# EAGLE library part 4050699 (library ampex)
REGULATOR BOARD
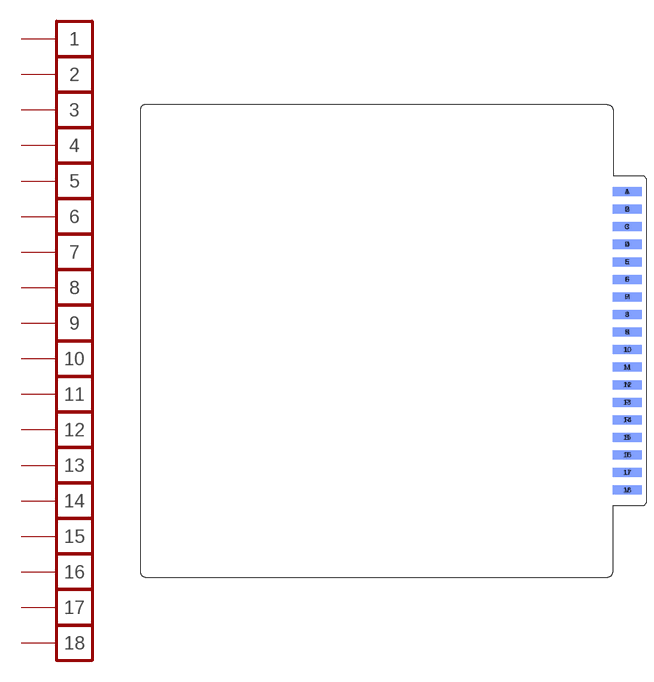
[diagram p22: symbol with the pads of 4050699; footprint 4050699]

Designator prefix PCB; gates 1=FPIN 2=FPIN 3=FPIN 4=FPIN 5=FPIN 6=FPIN 7=FPIN 8=FPIN 9=FPIN 10=FPIN 11=FPIN 12=FPIN 13=FPIN 14=FPIN 15=FPIN 16=FPIN 17=FPIN 18=FPIN

## 4050699  [4050699]
1  1:P  pas
2  2:P  pas
3  3:P  pas
4  4:P  pas
5  5:P  pas
6  6:P  pas
7  7:P  pas
8  8:P  pas
9  9:P  pas
10  10:P  pas
11  11:P  pas
12  12:P  pas
13  13:P  pas
14  14:P  pas
15  15:P  pas
16  16:P  pas
17  17:P  pas
18  18:P  pas
A  1:P  pas
B  2:P  pas
C  3:P  pas
D  4:P  pas
E  5:P  pas
F  6:P  pas
H  7:P  pas
J  8:P  pas
K  9:P  pas
L  10:P  pas
M  11:P  pas
N  12:P  pas
P  13:P  pas
R  14:P  pas
S  15:P  pas
T  16:P  pas
U  17:P  pas
V  18:P  pas

## Footprint 4050699 (pad centres in mm)
MM1200 REGULATOR CARD
smd 6.604 x 2.032 bottom: 1 -4.445,33.68; 2 -4.445,29.718; 3 -4.445,25.756; 4 -4.445,21.793; 5 -4.445,17.831; 6 -4.445,13.868; 7 -4.445,9.906; 8 -4.445,5.944; 9 -4.445,1.981; 10 -4.445,-1.981; 11 -4.445,-5.944; 12 -4.445,-9.906; 13 -4.445,-13.868; 14 -4.445,-17.831; 15 -4.445,-21.793; 16 -4.445,-25.756; 17 -4.445,-29.718; 18 -4.445,-33.68
smd 6.604 x 2.032: A -4.445,33.68; B -4.445,29.718; C -4.445,25.756; D -4.445,21.793; E -4.445,17.831; F -4.445,13.868; H -4.445,9.906; J -4.445,5.944; K -4.445,1.981; L -4.445,-1.981; M -4.445,-5.944; N -4.445,-9.906; P -4.445,-13.868; R -4.445,-17.831; S -4.445,-21.793; T -4.445,-25.756; U -4.445,-29.718; V -4.445,-33.68